# Altium schematic symbol library 1-Wire master.SchLib: 1 symbol
Pins are listed as number, name and electrical type; pins without a type are passive.

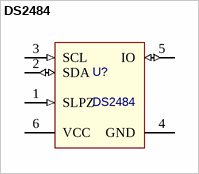
[diagram p0: symbol DS2484]

## DS2484
designator U?
Single-channel 1-Wire master with adjustable timing and sleep mode.; Manufacture: Maxim Integrated; Part number: DS2484R+T
footprint SOT23-6 (Maxim 21-0058) (SOT23, 6-Leads, Body 2,90x2,80mm, Pitch 0,95mm, IPC Medium Density)
pins: 1 SLPZ (in) "Power supply for I2C port and active-low control input to active the low-power sleep mode. This pincan be driven directly by a push-pull port or by an open-drain port with a 2.2kOhm pullup resistor to the I2Cvoltage(Vci2c) over the entire operating voltage range.", 2 SDA (io) "I2C serial-data I/O. Must be connected to the I2C bus supply voltage throught a pullup resistor.", 3 SCL (in) "I2C serial-clock input. Must be connected to the I2C bus supply voltage throught a pullup resistor.", 4 GND (power) "Ground reference.", 5 IO (io) "Input/output driver for 1-Wire line.", 6 VCC (power) "Power supply input."